# Altium footprint library MC306327680KE3ROHS.PcbLib: 1 footprints
Each footprint in its own frame and in the unit in brackets; x right, y up, seen from the top. Pads: shape width x height; smd on the part's side, far side on the other; paste and mask are expansions set on the pad; w line width, h text height; cw(c..) or ccw(c..) is an arc to the next point about the centre after c.
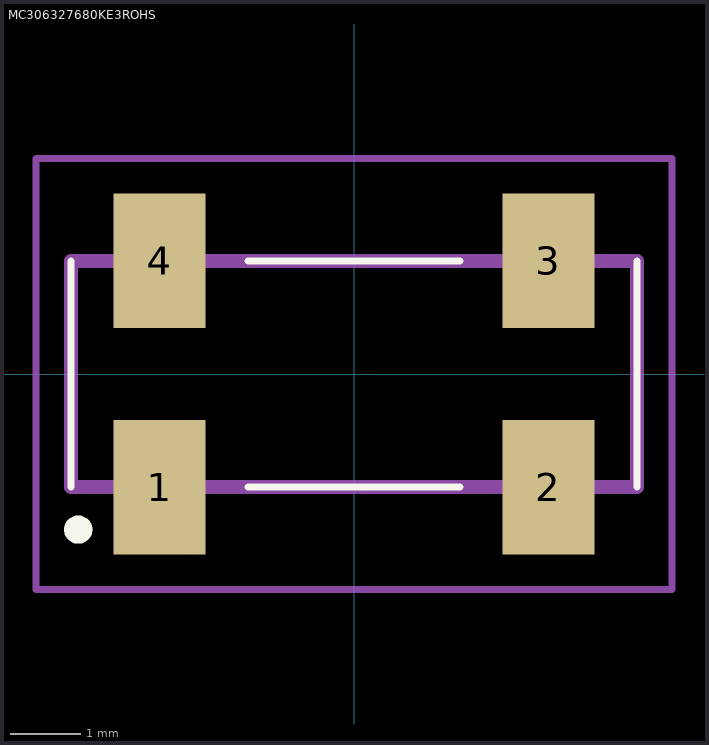
[diagram p0: the footprint, top view; thin cyan lines are the x and y axes]

## MC306327680KE3ROHS [mm]
pads (4):
  rect 1.3x1.9 smd: 1(-2.75,-1.6) 2(2.75,-1.6) 3(2.75,1.6) 4(-2.75,1.6)
Top Overlay:
  lines w0.1: -4,-1.6 -4,1.6 ; -1.5,-1.6 1.5,-1.6 ; -1.5,1.6 1.5,1.6 ; 4,-1.6 4,1.6
  lines w0.2: -3.9,-2.3 cw(c-3.9,-2.2) -3.9,-2.1 ; -3.9,-2.3 -3.9,-2.3 ; -3.9,-2.3 ccw(c-3.9,-2.2) -3.9,-2.1 ; -3.9,-2.1 -3.9,-2.1
Mechanical 15:
  lines w0.2: -4,-1.6 4,-1.6 4,1.6 -4,1.6 -4,-1.6
Mechanical 20:
  lines w0.1: -4.5,-3.05 4.5,-3.05 4.5,3.05 -4.5,3.05 -4.5,-3.05